# Altium footprint library lorawan_gateway.PcbLib: 36 footprints (part 2 of 3)
Each footprint in its own frame and in the unit in brackets; x right, y up, seen from the top. Pads: shape width x height; smd on the part's side, far side on the other; paste and mask are expansions set on the pad; w line width, h text height; cw(c..) or ccw(c..) is an arc to the next point about the centre after c.
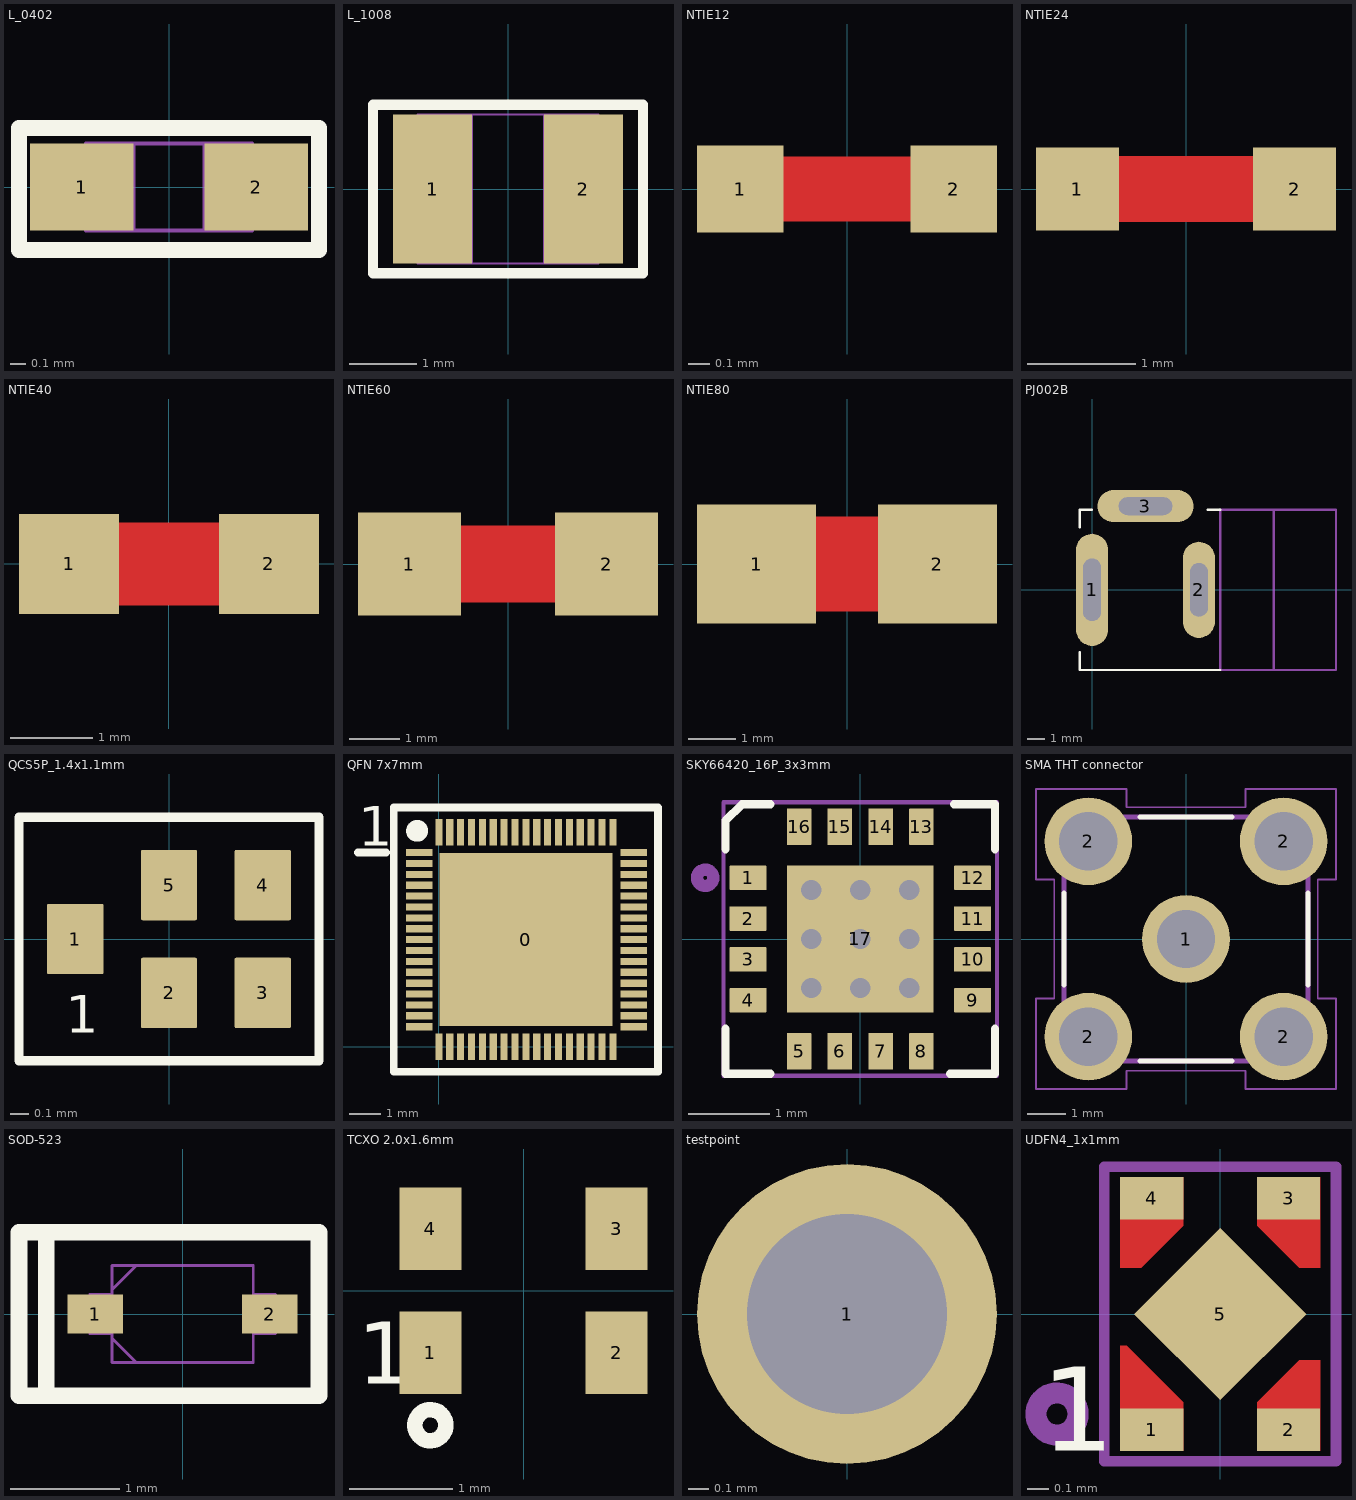
[diagram p1: the footprints below, top view; thin cyan lines are the x and y axes]

## L_0402 [mm]
pads (2):
  rect 0.656x0.55 smd paste+0 mask+0: 1(-0.553,0) 2(0.553,0)
Top Overlay:
  lines w0.102: -0.95,-0.4 -0.95,0.375 0.95,0.375 0.95,-0.4 -0.95,-0.4
Mechanical 13:
  lines w0.025: -0.525,-0.275 -0.525,0.275 ; -0.525,-0.275 -0.225,-0.275 -0.225,0.275 -0.525,0.275 ; -0.525,-0.275 0.525,-0.275 ; -0.525,-0.275 -0.525,0.275 ; -0.525,0.275 0.525,0.275 ; 0.525,-0.275 0.225,-0.275 0.225,0.275 0.525,0.275 ; 0.525,-0.275 0.525,0.275 ; 0.525,-0.275 0.525,0.275
3D body "LXES15_MUR.step": height 0.33, standoff 0, extent -0.525,-0.275 0.525,0.275

## L_1008 [mil] "L_1008"
pads (2):
  rect 46x87 smd paste+0 mask+0: 1(-44,0) 2(44,0)
Top Overlay:
  lines w6: -78.74,-49.21 0,-49.21 78.74,-49.21 78.74,49.21 -78.74,49.21 -78.74,-49.21
Mechanical 13:
  lines w1: -53,-43.5 -53,43.5 ; -53,-43.5 -21,-43.5 -21,43.5 -53,43.5 ; -53,-43.5 53,-43.5 ; -53,-43.5 -53,43.5 ; -53,43.5 53,43.5 ; 53,-43.5 21,-43.5 21,43.5 53,43.5 ; 53,-43.5 53,43.5 ; 53,-43.5 53,43.5
3D body "IND_LQM2HPN2R2MG0L_MUR.step": height 39.02, standoff 0, extent -52.99,-43.5 52.99,43.5

## NTIE12 [mil] "NTIE 12mil"
pads (2):
  rect 16x16 smd: 1(-19.68,0) 2(19.68,0)
Top Layer:
  lines w12: -19.68,0 19.68,0

## NTIE24 [mil] "NTIE 24 mil"
pads (2):
  rect 30x30 smd: 1(-39.37,0) 2(39.37,0)
Top Layer:
  lines w24: -27.56,0 27.56,0

## NTIE40 [mil] "NTIE 40 mil"
pads (2):
  rect 48x48 smd: 1(-48,0) 2(48,0)
Top Layer:
  lines w40: -48,0 48,0

## NTIE60 [mil] "NTIE 00 mil"
pads (2):
  rect 80x80 smd: 1(-76.77,0) 2(76.77,0)
Top Layer:
  lines w60: -76.77,0 76.77,0

## NTIE80 [mm] "NTIE"
pads (2):
  rect 2.54x2.54 smd: 1(-1.925,0) 2(1.925,0)
Top Layer:
  lines w2.032: -1.925,0 1.925,0

## PJ002B [mm]
pads (3):
  oval 1.8x6.3 hole 1 slot 3.5 at 90 deg: 1(0,0)
  oval 1.8x5.4 hole 1 slot 3 at 90 deg: 2(6,0)
  oval 5.4x1.8 hole 1 slot 3 at 0 deg: 3(3,4.7)
Top Overlay:
  lines w0.127: -0.7,-3.5 -0.7,-4.5 7.2,-4.5 ; -0.7,3.5 -0.7,4.5 0,4.5 ; 6.5,4.5 7.2,4.5
Mechanical 4:
  lines w0.127: 10.2,-4.5 10.2,4.5 ; 7.2,-4.5 7.2,4.5 13.7,4.5 13.7,-4.5 7.2,-4.5
3D body "User Library-PJ-002AH.STEP": height 11.05, standoff -3.45, extent -0.7,-4.7 13.7,4.7

## QCS5P_1.4x1.1mm [mm] "QCS5P footprint, 1.4x1.1mm; TDK"
height 0.5
pads (5):
  rrect5% 0.3x0.375 smd paste+0 mask+0.05: 1(-0.5,0) 2(0,-0.288) 3(0.5,-0.288) 4(0.5,0.288) 5(0,0.288)
Top Overlay:
  lines w0.05: -0.8,-0.65 -0.8,0.65 0.8,0.65 0.8,-0.65 -0.8,-0.65
  text "1" at -0.55,-0.5 h0.2
3D body: height 1, standoff 0, extent -0.7,-0.55 0.7,0.55

## QFN 7x7mm [mm] "QFN 7x7mm P=0.35mm"
height 0.8
pads (69):
  rect 5.56x5.56 smd: 0(2.8,3.45)
  rect 0.85x0.23 smd: 1(-0.63,6.25) 2(-0.63,5.9) 3(-0.63,5.55) 4(-0.63,5.2) 5(-0.63,4.85) 6(-0.63,4.5) 7(-0.63,4.15) 8(-0.63,3.8) 9(-0.63,3.45) 10(-0.63,3.1) 11(-0.63,2.75) 12(-0.63,2.4) 13(-0.63,2.05) 14(-0.63,1.7) 15(-0.63,1.35) 16(-0.63,1) 17(-0.63,0.65) 35(6.27,0.65) 36(6.27,1) 37(6.27,1.35) 38(6.27,1.7) 39(6.27,2.05) 40(6.27,2.4) 41(6.27,2.75) 42(6.27,3.1) 43(6.27,3.45) 44(6.27,3.8) 45(6.27,4.15) 46(6.27,4.5) 47(6.27,4.85) 48(6.27,5.2) 49(6.27,5.55) 50(6.27,5.9) 51(6.27,6.25)
  rect 0.23x0.85 smd: 18(0,0) 19(0.35,0) 20(0.7,0) 21(1.05,0) 22(1.4,0) 23(1.75,0) 24(2.1,0) 25(2.45,0) 26(2.8,0) 27(3.15,0) 28(3.5,0) 29(3.85,0) 30(4.2,0) 31(4.55,0) 32(4.9,0) 33(5.25,0) 34(5.6,0) 52(5.6,6.9) 53(5.25,6.9) 54(4.9,6.9) 55(4.55,6.9) 56(4.2,6.9) 57(3.85,6.9) 58(3.5,6.9) 59(3.15,6.9) 60(2.8,6.9) 61(2.45,6.9) 62(2.1,6.9) 63(1.75,6.9) 64(1.4,6.9) 65(1.05,6.9) 66(0.7,6.9) 67(0.35,6.9) 68(0,6.9)
Top Overlay:
  circle w0.5: c-0.7,6.95 r0.1
  lines w0.254: -2.6,6.25 -1.7,6.25 ; -1.45,-0.8 7.05,-0.8 7.05,7.7 -1.45,7.7 -1.45,-0.8
  text "1" at -2.6,6.472 h1.27
3D body "QFN68_7X7_SEM.step": height 0.81, standoff 0, extent -0.705,-0.055 6.305,6.955

## SKY66420_16P_3x3mm [mm] "16 Leads, Body 3.0x3.0mm, Pitch 0.50mm"
height 1
pads (17):
  rrect5% 0.45x0.3 smd mask+0.05: 1(-1.375,0.75) 2(-1.375,0.25) 3(-1.375,-0.25) 4(-1.375,-0.75) 9(1.375,-0.75) 10(1.375,-0.25) 11(1.375,0.25) 12(1.375,0.75)
  rrect5% 0.3x0.45 smd mask+0.05: 5(-0.75,-1.375) 6(-0.25,-1.375) 7(0.25,-1.375) 8(0.75,-1.375) 13(0.75,1.375) 14(0.25,1.375) 15(-0.25,1.375) 16(-0.75,1.375)
  rrect1% 1.8x1.8 smd paste-5 mask-5: 17(0,0)
via 0,0 diameter 0.5 hole 0.25
via 0,-0.6 diameter 0.5 hole 0.25
via 0.6,-0.6 diameter 0.5 hole 0.25
via 0.6,0 diameter 0.5 hole 0.25
via 0.6,0.6 diameter 0.5 hole 0.25
via 0,0.6 diameter 0.5 hole 0.25
via -0.6,0.6 diameter 0.5 hole 0.25
via -0.6,0 diameter 0.5 hole 0.25
via -0.6,-0.6 diameter 0.5 hole 0.25
Top Overlay:
  lines w0.1: -1.65,-1.1 -1.65,-1.65 -1.1,-1.65 ; -1.65,1.1 -1.65,1.45 -1.45,1.65 -1.1,1.65 ; 1.1,-1.65 1.65,-1.65 1.65,-1.1 ; 1.15,1.65 1.65,1.65 1.65,1.1
Top Paste:
  region: -0.875,0.875 -0.875,0.375 -0.375,0.375 -0.375,0.875
  region: -0.25,0.875 -0.25,0.375 0.25,0.375 0.25,0.875
  region: 0.375,0.875 0.375,0.375 0.875,0.375 0.875,0.875
  region: -0.875,0.25 -0.875,-0.25 -0.375,-0.25 -0.375,0.25
  region: -0.25,0.25 -0.25,-0.25 0.25,-0.25 0.25,0.25
  region: 0.375,0.25 0.375,-0.25 0.875,-0.25 0.875,0.25
  region: -0.875,-0.375 -0.875,-0.875 -0.375,-0.875 -0.375,-0.375
  region: -0.25,-0.375 -0.25,-0.875 0.25,-0.875 0.25,-0.375
  region: 0.375,-0.375 0.375,-0.875 0.875,-0.875 0.875,-0.375
Top Solder:
  rectangle: -0.925,0.35 -0.35,0.925
  rectangle: -0.275,0.35 0.275,0.925
  rectangle: 0.35,0.35 0.925,0.925
  rectangle: 0.35,-0.275 0.925,0.275
  rectangle: -0.275,-0.275 0.275,0.275
  rectangle: -0.925,-0.275 -0.35,0.275
  rectangle: 0.35,-0.925 0.925,-0.35
  rectangle: -0.275,-0.925 0.275,-0.35
  rectangle: -0.925,-0.925 -0.35,-0.35
Mechanical 2:
  text "1" at -2,1.15 h0.5
Mechanical 15:
  circle w0.15: c-1.9,0.75 r0.1
  lines w0.05: -1.675,-1.675 -1.675,1.675 1.675,1.675 1.675,-1.675 -1.675,-1.675
3D body: height 0, standoff 0, extent -1.5,-1.5 1.5,1.5

## SMA THT connector [mm]
pads (5):
  round 2.28 hole 1.52: 1(0,0) 2(-2.54,-2.54) 2(-2.54,2.54) 2(2.54,-2.54) 2(2.54,2.54)
Top Overlay:
  lines w0.127: -3.175,-1.2 -3.175,1.2 ; -1.2,-3.175 1.2,-3.175 ; -1.2,3.175 1.2,3.175 ; 3.175,-3.175 3.175,-2.5 ; 3.175,-1.2 3.175,1.2 ; 3.175,2.5 3.175,3.175
Mechanical 13:
  lines w0.127: 3.175,-3.175 -3.175,-3.175 -3.175,3.175 3.175,3.175 ; 3.175,-2.5 3.175,2.5
Mechanical 15:
  lines w0.05: -3.9,-3.9 -3.9,-1.55 -3.425,-1.55 -3.425,1.55 -3.9,1.55 -3.9,3.9 -2.55,3.9 -1.55,3.9 -1.55,3.425 1.55,3.425 1.55,3.9 2.55,3.9 3.9,3.9 3.9,1.55 3.425,1.55 3.425,-1.55 3.9,-1.55 3.9,-3.9 1.55,-3.9 1.55,-3.425 -1.55,-3.425 -1.55,-3.9 -3.9,-3.9
3D body "c-1053374-1-e-3d.stp": height 10, standoff -2.73, extent -3.175,-3.175 3.175,3.175

## SOD-523 [mil]
pads (2):
  rect 20x14 smd paste+0 mask+0: 1(-31.5,0) 2(31.5,0)
Top Overlay:
  lines w6: -49.21,-29.53 -49.21,29.53 ; -59.06,-29.53 49.21,-29.53 49.21,29.53 -59.06,29.53 -59.06,-29.53
Mechanical 13:
  lines w1: -25.5,-8.75 -16.75,-17.5 ; -25.5,8.75 -16.75,17.5 ; -33.5,-7 -25.5,-7 -25.5,7 -33.5,7 -33.5,-7 ; -25.5,-17.5 -25.5,17.5 25.5,17.5 25.5,-17.5 -25.5,-17.5 ; 25.5,-7 33.5,-7 33.5,7 25.5,7 25.5,-7
  text "*" at -28,-25 h50
3D body "SOD-523_0P9X1P3_ONS.step": height 18.27, standoff 0, extent -33.5,-17.48 33.5,17.48

## TCXO 2.0x1.6mm [mm] "SMD 2.0x1.6mm for TCXO or VCTCXO"
height 1
pads (4):
  rect 0.6x0.8 smd mask+0.05: 1(-0.9,-0.6) 2(0.9,-0.6) 3(0.9,0.6) 4(-0.9,0.6)
Top Overlay:
  circle w0.15: c-0.9,-1.3 r0.15
  text "1" at -1.6,-0.9 h0.6
3D body: height 1, standoff 0, extent -1,-0.8 1,0.8

## testpoint [mm]
pads (1):
  round 1.5 hole 1: 1(0,0)

## UDFN4_1x1mm [mm] "UDFN4_1x1mm"
height 0.6
pads (5):
  rect 0.3x0.2 smd paste-0.025 mask+0.025: 1(-0.325,-0.55) 2(0.325,-0.55) 3(0.325,0.55) 4(-0.325,0.55)
  rect 0.58x0.58 smd rot 45 paste-0.025 mask+0.025: 5(0,0)
Top Layer:
  region: 0.175,0.65 0.175,0.42 0.375,0.22 0.475,0.22 0.475,0.65
  region: -0.175,-0.65 -0.175,-0.42 -0.445,-0.15 -0.475,-0.15 -0.475,-0.65
  region: -0.175,0.65 -0.175,0.42 -0.375,0.22 -0.475,0.22 -0.475,0.65
  region: 0.175,-0.65 0.175,-0.42 0.375,-0.22 0.475,-0.22 0.475,-0.65
Top Overlay:
  text "1" at -0.85,-0.65 h0.4
Top Paste:
  region: -0.45,0.625 -0.45,0.25 -0.375,0.25 -0.2,0.425 -0.2,0.625
  region: 0.45,0.625 0.45,0.25 0.375,0.25 0.2,0.425 0.2,0.625
  region: 0.2,-0.625 0.2,-0.425 0.375,-0.25 0.45,-0.25 0.45,-0.625
  region: -0.2,-0.625 -0.2,-0.425 -0.425,-0.2 -0.45,-0.2 -0.45,-0.625
Top Solder:
  region: -0.5,0.675 -0.5,0.2 -0.375,0.2 -0.15,0.425 -0.15,0.675
  region: 0.5,-0.675 0.5,-0.2 0.375,-0.2 0.15,-0.425 0.15,-0.675
  region: -0.5,-0.675 -0.5,-0.125 -0.45,-0.125 -0.15,-0.425 -0.15,-0.675
  region: 0.5,0.675 0.5,0.2 0.375,0.2 0.15,0.425 0.15,0.675
Mechanical 15:
  circle w0.1: c-0.775,-0.475 r0.1
  lines w0.05: -0.55,-0.7 0.55,-0.7 0.55,0.7 -0.55,0.7 -0.55,-0.7
3D body: height 0.6, standoff 0, extent -0.5,-0.5 0.5,0.5